# EAGLE library part TDC7200 (library JOSHUA)
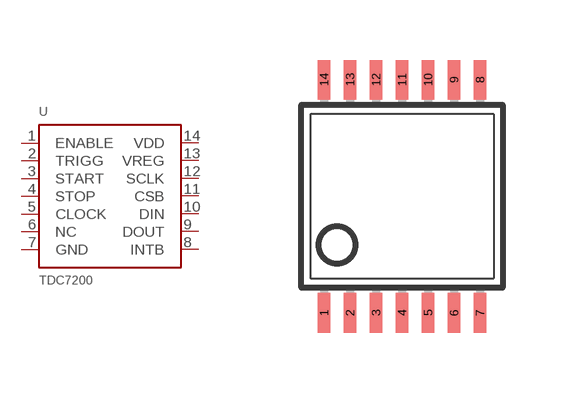
[diagram p0: symbol with the pads of TSSOP14; footprint TSSOP14]

Designator prefix -

## TDC7200  [TSSOP14]
1  ENABLE
2  TRIGG
3  START
4  STOP
5  CLOCK
6  NC
7  GND
8  INTB
9  DOUT
10  DIN
11  CSB
12  SCLK
13  VREG
14  VDD

## Footprint TSSOP14 (pad centres in mm)
smd 0.305 x 0.991: 1 -1.95,-2.918; 2 -1.3,-2.918; 3 -0.65,-2.918; 4 0,-2.918; 5 0.65,-2.918; 6 1.3,-2.918; 7 1.95,-2.918; 8 1.95,2.918; 9 1.3,2.918; 10 0.65,2.918; 11 0,2.918; 12 -0.65,2.918; 13 -1.3,2.918; 14 -1.95,2.918